# EAGLE library part LMV344 (library ic-TI)
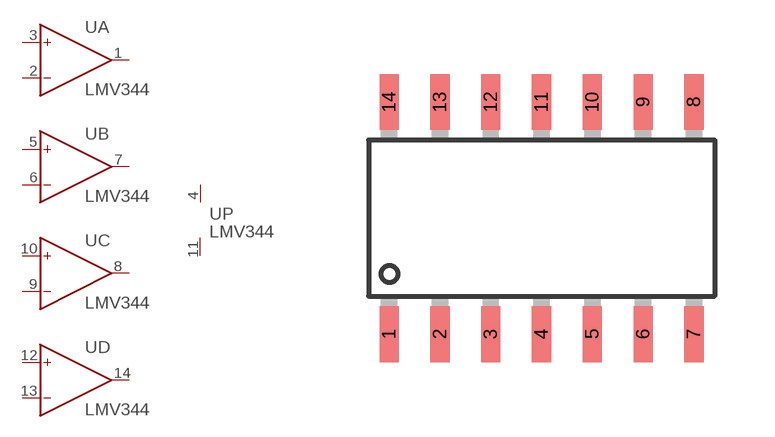
[diagram p7: symbol with the pads of SOP14; footprint SOP14]

Designator prefix U; gates A=OPAMP B=OPAMP C=OPAMP D=OPAMP P=OPAMP_PWR

## LMV344D  [SOP14]
1  A:OUT  out
2  A:IN-  in
3  A:IN+  in
4  P:V+  in
5  B:IN+  in
6  B:IN-  in
7  B:OUT  out
8  C:OUT  out
9  C:IN-  in
10  C:IN+  in
11  P:V-  in
12  D:IN+  in
13  D:IN-  in
14  D:OUT  out

## Footprint SOP14 (pad centres in mm)
smd 0.48 x 1.4: 1 -3.81,-2.9; 2 -2.54,-2.9; 3 -1.27,-2.9; 4 0,-2.9; 5 1.27,-2.9; 6 2.54,-2.9; 7 3.81,-2.9; 8 3.81,2.9; 9 2.54,2.9; 10 1.27,2.9; 11 0,2.9; 12 -1.27,2.9; 13 -2.54,2.9; 14 -3.81,2.9